# EAGLE library part LED-DRIVER-9CH-LP55231 (library FlashPCB_ICs)
LP55231 - IC LED DRVR RGLTR PWM 24WQFN Technical Specifications: LED Driver IC 9 Output DC DC Regulator Switched Capacitor (Charge Pump) PWM Dimming 25.5mA 24-WQFN (4x4) Interface: Two-Wire I2C compatible input Output: 12-bit PWM Output supports 9x White LEDs or 3x RGB LEDs Overcurrent & Short Circuit Protection, Built-in LED test Component Search: LP55231 <https://www.flashpcb.com/components> Datasheet: LP55231 Nine-Channel RGB, White-LED Driver With Internal Program Memory and Integrated Charge Pump - WQFN datasheet (Rev. D) <https://www.ti.com/lit/ds/symlink/lp55231.pdf?HQS=dis-dk-null-digikeymode-dsf-pf-null-wwe&ts=1683537082187&ref_url=https%253A%252F%252Fwww.ti.com%252Fgeneral%252Fdocs%252Fsuppproductinfo.tsp%253FdistId%253D10%2526gotoUrl%253Dhttps%253A%252F%252Fwww.ti.com%252Flit%252Fgpn%252Flp55231>
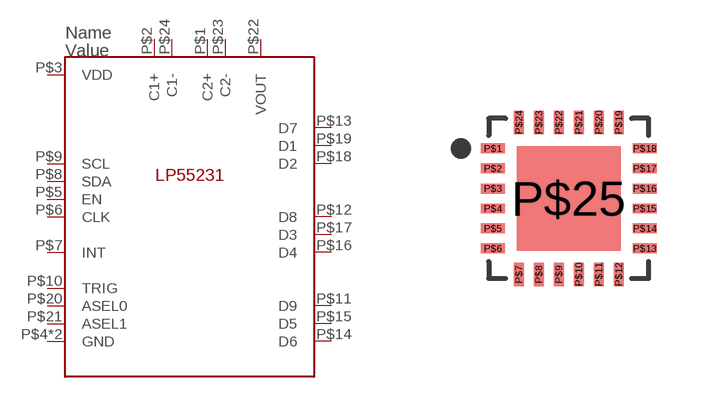
[diagram p55: symbol with the pads of 24-WQFN(4X4); footprint 24-WQFN(4X4)]

Designator prefix U

## LED-DRIVER-9CH-LP55231RTW  [24-WQFN(4X4)]
P$1  C2+
P$2  C1+
P$3  VDD
P$4  GND
P$5  EN
P$6  CLK
P$7  INT
P$8  SDA
P$9  SCL
P$10  TRIG
P$11  D9
P$12  D8
P$13  D7
P$14  D6
P$15  D5
P$16  D4
P$17  D3
P$18  D2
P$19  D1
P$20  ASEL0
P$21  ASEL1
P$22  VOUT
P$23  C2-
P$24  C1-
P$25  GND

## Footprint 24-WQFN(4X4) (pad centres in mm)
smd 0.6 x 0.25: P$1 -1.9,1.25; P$2 -1.9,0.75; P$3 -1.9,0.25; P$4 -1.9,-0.25; P$5 -1.9,-0.75; P$6 -1.9,-1.25; P$13 1.9,-1.25; P$14 1.9,-0.75; P$15 1.9,-0.25; P$16 1.9,0.25; P$17 1.9,0.75; P$18 1.9,1.25
smd 0.25 x 0.6: P$7 -1.25,-1.9; P$8 -0.75,-1.9; P$9 -0.25,-1.9; P$10 0.25,-1.9; P$11 0.75,-1.9; P$12 1.25,-1.9; P$19 1.25,1.9; P$20 0.75,1.9; P$21 0.25,1.9; P$22 -0.25,1.9; P$23 -0.75,1.9; P$24 -1.25,1.9
smd 2.6 x 2.6: P$25 0,0